# Altium schematic symbol library AmbiqAndromeda.SCHLIB: 34 symbols
Pins are listed as number, name and electrical type; pins without a type are passive.

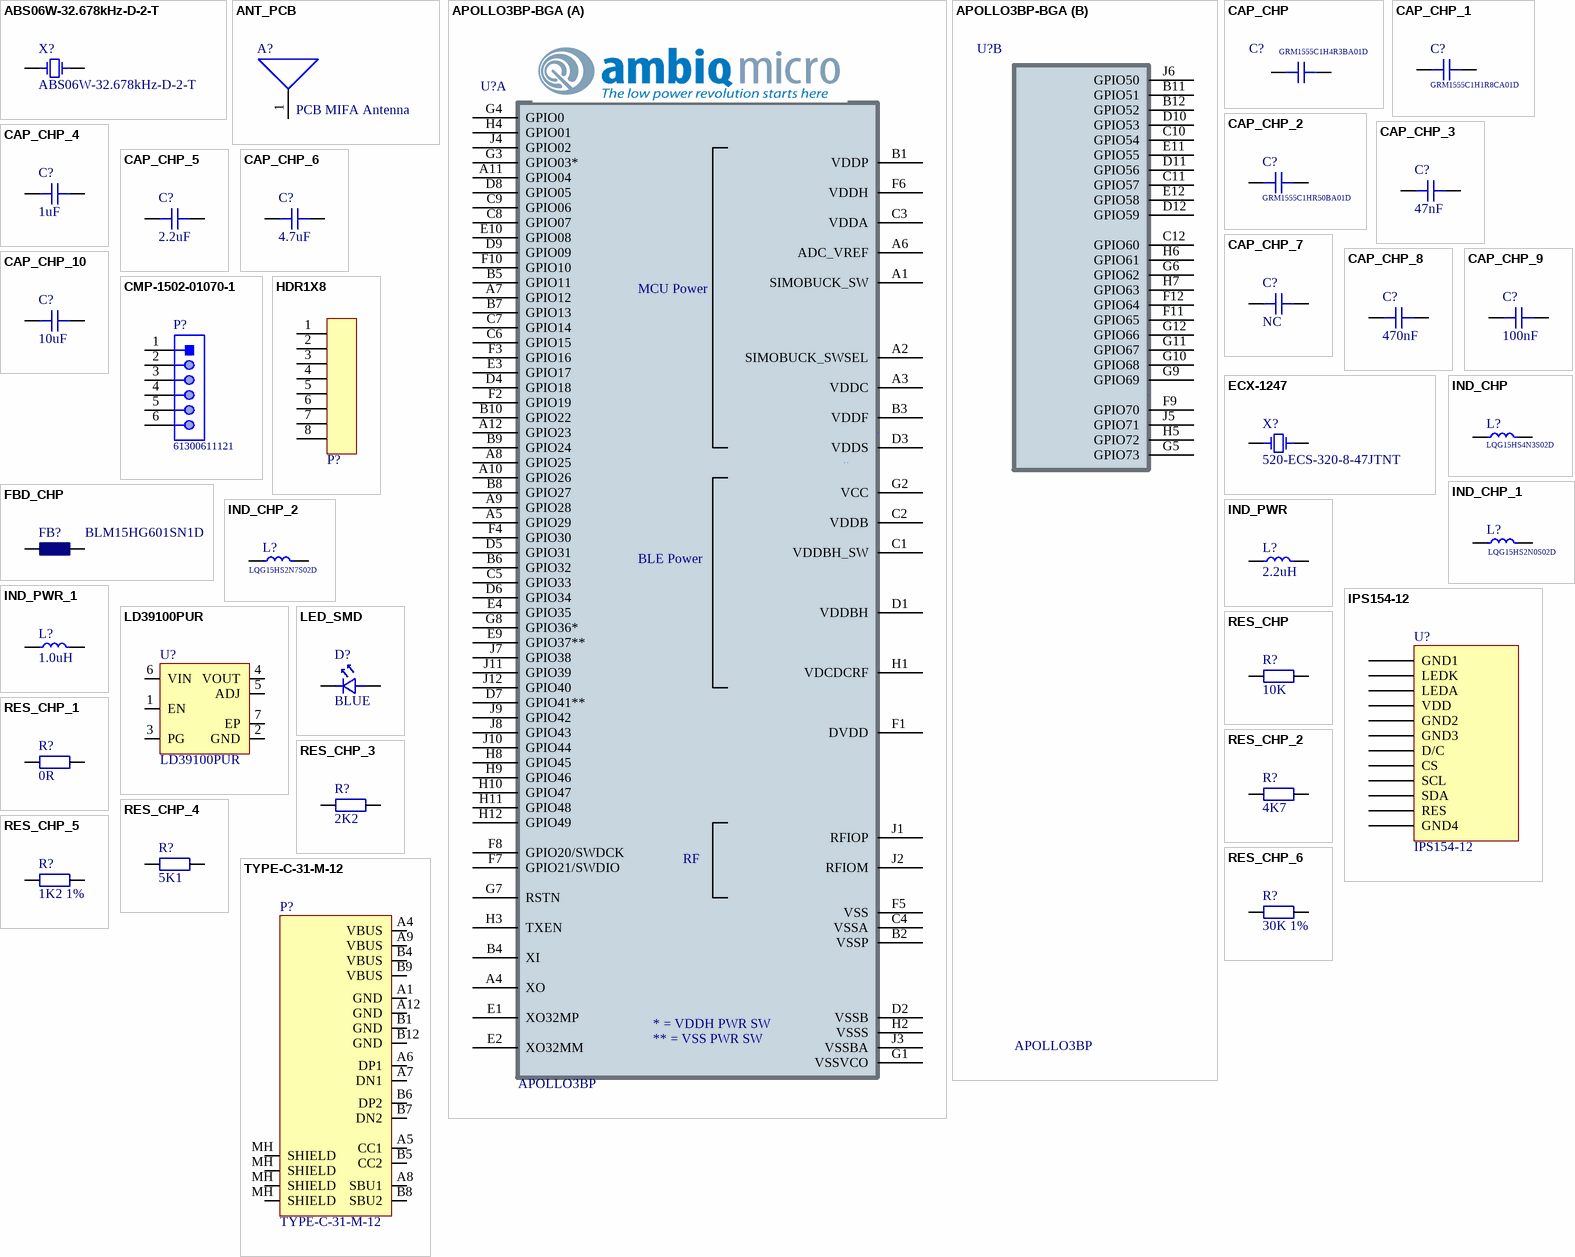
[diagram p0: symbols ABS06W-32.678kHz-D-2-T to TYPE-C-31-M-12]

## ABS06W-32.678kHz-D-2-T
designator X?
32.768KHZ IoT OPTIMIZED SMD CRYSTA
footprint ABS06W
pins: 1, 2

## ANT_PCB
designator A?, comment PCB MIFA Antenna  (net tie, no BOM)
2.4G Printed Antenna
footprint MIFA_ANTENNA
footprint IFA (Wonderful Antenna Sandbox Electronics Patent Pending)
footprint IFA_CC2530 (2.4GHz Inverted F Antenna)
footprint MIFA_CC2530
footprint MIFA_AMBIQ
pins: 1

## APOLLO3BP-BGA
designator U?, comment APOLLO3BP
APOLLO3 Blue Plus; Manufacturer: Ambiq Micro; Part Number: APOLLO3BP; Value: APOLLO3BP
footprint BGA104C40P12X9_530X430X80L (BGA, 104-Leads, Body 5.30x4.30mmx0.80mm, Pitch 0.40mm)
footprint BGA104C40P12X9_530X430X80M (BGA, 104-Leads, Body 5.30x4.30mmx0.80mm, Pitch 0.40mm)
part A pins: A1 SIMOBUCK_SW, A2 SIMOBUCK_SWSEL, A3 VDDC, A4 XO, A5 GPIO29, A6 ADC_VREF, A7 GPIO12, A8 GPIO25, A9 GPIO28, A10 GPIO26, A11 GPIO04, A12 GPIO23, B1 VDDP, B2 VSSP, B3 VDDF, B4 XI, B5 GPIO11, B6 GPIO32, B7 GPIO13, B8 GPIO27, B9 GPIO24, B10 GPIO22, C1 VDDBH_SW, C2 VDDB, C3 VDDA, C4 VSSA, C5 GPIO33, C6 GPIO15, C7 GPIO14, C8 GPIO07, C9 GPIO06, D1 VDDBH, D2 VSSB, D3 VDDS, D4 GPIO18, D5 GPIO31, D6 GPIO34, D7 GPIO41**, D8 GPIO05, D9 GPIO09, E1 XO32MP, E2 XO32MM, E3 GPIO17, E4 GPIO35, E9 GPIO37**, E10 GPIO08, F1 DVDD, F2 GPIO19, F3 GPIO16, F4 GPIO30, F5 VSS, F6 VDDH, F7 GPIO21/SWDIO, F8 GPIO20/SWDCK, F10 GPIO10, G1 VSSVCO, G2 VCC, G3 GPIO03*, G4 GPIO0, G7 RSTN, G8 GPIO36*, H1 VDCDCRF, H2 VSSS, H3 TXEN, H4 GPIO01, H8 GPIO45, H9 GPIO46, H10 GPIO47, H11 GPIO48, H12 GPIO49, J1 RFIOP, J2 RFIOM, J3 VSSBA, J4 GPIO02, J7 GPIO38, J8 GPIO43, J9 GPIO42, J10 GPIO44, J11 GPIO39, J12 GPIO40
part B pins: B11 GPIO51, B12 GPIO52, C10 GPIO54, C11 GPIO57, C12 GPIO60, D10 GPIO53, D11 GPIO56, D12 GPIO59, E11 GPIO55, E12 GPIO58, F9 GPIO70, F11 GPIO65, F12 GPIO64, G5 GPIO73, G6 GPIO62, G9 GPIO69, G10 GPIO68, G11 GPIO67, G12 GPIO66, H5 GPIO72, H6 GPIO61, H7 GPIO63, J5 GPIO71, J6 GPIO50
part A text: MCU Power; BLE Power; RF; * = VDDH PWR SW; ** = VSS PWR SW

## CAP_CHP
designator C?, comment GRM1555C1H4R3BA01D
Surface Mount Unpolarized Capacitor
footprint CAPC1608L (Chip Capacitor, Body 1.6x0.8mm, IPC High Density)
footprint CAPC1608M (Chip Capacitor, Body 1.6x0.8mm, IPC Low Density)
footprint CAPC1608N (Chip Capacitor, Body 1.6x0.8mm, IPC Medium Density)
footprint CAPC2012L (Chip Capacitor, Body 2.0x1.3mm, IPC High Density)
footprint CAPC2012M (Chip Capacitor, Body 2.0x1.3mm, IPC Low Density)
footprint CAPC2012N (Chip Capacitor, Body 2.0x1.3mm, IPC Medium Density)
footprint CAPC3216L (Chip Capacitor, Body 3.2x1.6mm, IPC High Density)
footprint CAPC3216M (Chip Capacitor, Body 3.2x1.6mm, IPC Low Density)
footprint CAPC3216N (Chip Capacitor, Body 3.2x1.6mm, IPC Medium Density)
footprint CAPC3225L (Chip Capacitor, Body 3.2x2.5mm, IPC High Density)
footprint CAPC3225M (Chip Capacitor, Body 3.2x2.5mm, IPC Low Density)
footprint CAPC3225N (Chip Capacitor, Body 3.2x2.5mm, IPC Medium Density)
footprint CAPC1005L (Chip Capacitor, Body 1.0x0.5mm, IPC High Density)
footprint CAPC1005M (Chip Capacitor, Body 1.0x0.5mm, IPC Low Density)
footprint CAPC1005N (Chip Capacitor, Body 1.0x0.5mm, IPC Medium Density)
footprint ECHU1608
footprint ECHU2012
footprint ECWU3216
footprint CAPC4532L (Chip Capacitor, Body 4.5x3.2mm, IPC High Density)
footprint CAPC4532M (Chip Capacitor, Body 4.5x3.2mm, IPC Low Density)
footprint CAPC4532N (Chip Capacitor, Body 4.5x3.2mm, IPC Medium Density)
pins: 1, 2

## CAP_CHP_1
designator C?, comment GRM1555C1H1R8CA01D
Surface Mount Unpolarized Capacitor
footprint CAPC1608L (Chip Capacitor, Body 1.6x0.8mm, IPC High Density)
footprint CAPC1608M (Chip Capacitor, Body 1.6x0.8mm, IPC Low Density)
footprint CAPC1608N (Chip Capacitor, Body 1.6x0.8mm, IPC Medium Density)
footprint CAPC2012L (Chip Capacitor, Body 2.0x1.3mm, IPC High Density)
footprint CAPC2012M (Chip Capacitor, Body 2.0x1.3mm, IPC Low Density)
footprint CAPC2012N (Chip Capacitor, Body 2.0x1.3mm, IPC Medium Density)
footprint CAPC3216L (Chip Capacitor, Body 3.2x1.6mm, IPC High Density)
footprint CAPC3216M (Chip Capacitor, Body 3.2x1.6mm, IPC Low Density)
footprint CAPC3216N (Chip Capacitor, Body 3.2x1.6mm, IPC Medium Density)
footprint CAPC3225L (Chip Capacitor, Body 3.2x2.5mm, IPC High Density)
footprint CAPC3225M (Chip Capacitor, Body 3.2x2.5mm, IPC Low Density)
footprint CAPC3225N (Chip Capacitor, Body 3.2x2.5mm, IPC Medium Density)
footprint CAPC1005L (Chip Capacitor, Body 1.0x0.5mm, IPC High Density)
footprint CAPC1005M (Chip Capacitor, Body 1.0x0.5mm, IPC Low Density)
footprint CAPC1005N (Chip Capacitor, Body 1.0x0.5mm, IPC Medium Density)
footprint ECHU1608
footprint ECHU2012
footprint ECWU3216
footprint CAPC4532L (Chip Capacitor, Body 4.5x3.2mm, IPC High Density)
footprint CAPC4532M (Chip Capacitor, Body 4.5x3.2mm, IPC Low Density)
footprint CAPC4532N (Chip Capacitor, Body 4.5x3.2mm, IPC Medium Density)
pins: 1, 2

## CAP_CHP_2
designator C?, comment GRM1555C1HR50BA01D
Surface Mount Unpolarized Capacitor
footprint CAPC1608L (Chip Capacitor, Body 1.6x0.8mm, IPC High Density)
footprint CAPC1608M (Chip Capacitor, Body 1.6x0.8mm, IPC Low Density)
footprint CAPC1608N (Chip Capacitor, Body 1.6x0.8mm, IPC Medium Density)
footprint CAPC2012L (Chip Capacitor, Body 2.0x1.3mm, IPC High Density)
footprint CAPC2012M (Chip Capacitor, Body 2.0x1.3mm, IPC Low Density)
footprint CAPC2012N (Chip Capacitor, Body 2.0x1.3mm, IPC Medium Density)
footprint CAPC3216L (Chip Capacitor, Body 3.2x1.6mm, IPC High Density)
footprint CAPC3216M (Chip Capacitor, Body 3.2x1.6mm, IPC Low Density)
footprint CAPC3216N (Chip Capacitor, Body 3.2x1.6mm, IPC Medium Density)
footprint CAPC3225L (Chip Capacitor, Body 3.2x2.5mm, IPC High Density)
footprint CAPC3225M (Chip Capacitor, Body 3.2x2.5mm, IPC Low Density)
footprint CAPC3225N (Chip Capacitor, Body 3.2x2.5mm, IPC Medium Density)
footprint CAPC1005L (Chip Capacitor, Body 1.0x0.5mm, IPC High Density)
footprint CAPC1005M (Chip Capacitor, Body 1.0x0.5mm, IPC Low Density)
footprint CAPC1005N (Chip Capacitor, Body 1.0x0.5mm, IPC Medium Density)
footprint ECHU1608
footprint ECHU2012
footprint ECWU3216
footprint CAPC4532L (Chip Capacitor, Body 4.5x3.2mm, IPC High Density)
footprint CAPC4532M (Chip Capacitor, Body 4.5x3.2mm, IPC Low Density)
footprint CAPC4532N (Chip Capacitor, Body 4.5x3.2mm, IPC Medium Density)
pins: 1, 2

## CAP_CHP_3
designator C?, comment 47nF
Surface Mount Unpolarized Capacitor
footprint CAPC1608L (Chip Capacitor, Body 1.6x0.8mm, IPC High Density)
footprint CAPC1608M (Chip Capacitor, Body 1.6x0.8mm, IPC Low Density)
footprint CAPC1608N (Chip Capacitor, Body 1.6x0.8mm, IPC Medium Density)
footprint CAPC2012L (Chip Capacitor, Body 2.0x1.3mm, IPC High Density)
footprint CAPC2012M (Chip Capacitor, Body 2.0x1.3mm, IPC Low Density)
footprint CAPC2012N (Chip Capacitor, Body 2.0x1.3mm, IPC Medium Density)
footprint CAPC3216L (Chip Capacitor, Body 3.2x1.6mm, IPC High Density)
footprint CAPC3216M (Chip Capacitor, Body 3.2x1.6mm, IPC Low Density)
footprint CAPC3216N (Chip Capacitor, Body 3.2x1.6mm, IPC Medium Density)
footprint CAPC3225L (Chip Capacitor, Body 3.2x2.5mm, IPC High Density)
footprint CAPC3225M (Chip Capacitor, Body 3.2x2.5mm, IPC Low Density)
footprint CAPC3225N (Chip Capacitor, Body 3.2x2.5mm, IPC Medium Density)
footprint CAPC1005L (Chip Capacitor, Body 1.0x0.5mm, IPC High Density)
footprint CAPC1005M (Chip Capacitor, Body 1.0x0.5mm, IPC Low Density)
footprint CAPC1005N (Chip Capacitor, Body 1.0x0.5mm, IPC Medium Density)
footprint ECHU1608
footprint ECHU2012
footprint ECWU3216
footprint CAPC4532L (Chip Capacitor, Body 4.5x3.2mm, IPC High Density)
footprint CAPC4532M (Chip Capacitor, Body 4.5x3.2mm, IPC Low Density)
footprint CAPC4532N (Chip Capacitor, Body 4.5x3.2mm, IPC Medium Density)
footprint CAPC0603L (Chip Capacitor, Body 1.0x0.5mm, IPC High Density)
footprint CAPC0603M (Chip Capacitor, Body 1.0x0.5mm, IPC Low  Density)
footprint CAPC0603N (Chip Capacitor, Body 1.0x0.5mm, IPC Medium Density)
pins: 1, 2

## CAP_CHP_4
designator C?, comment 1uF
Surface Mount Unpolarized Capacitor
footprint CAPC1608L (Chip Capacitor, Body 1.6x0.8mm, IPC High Density)
footprint CAPC1608M (Chip Capacitor, Body 1.6x0.8mm, IPC Low Density)
footprint CAPC1608N (Chip Capacitor, Body 1.6x0.8mm, IPC Medium Density)
footprint CAPC2012L (Chip Capacitor, Body 2.0x1.3mm, IPC High Density)
footprint CAPC2012M (Chip Capacitor, Body 2.0x1.3mm, IPC Low Density)
footprint CAPC2012N (Chip Capacitor, Body 2.0x1.3mm, IPC Medium Density)
footprint CAPC3216L (Chip Capacitor, Body 3.2x1.6mm, IPC High Density)
footprint CAPC3216M (Chip Capacitor, Body 3.2x1.6mm, IPC Low Density)
footprint CAPC3216N (Chip Capacitor, Body 3.2x1.6mm, IPC Medium Density)
footprint CAPC3225L (Chip Capacitor, Body 3.2x2.5mm, IPC High Density)
footprint CAPC3225M (Chip Capacitor, Body 3.2x2.5mm, IPC Low Density)
footprint CAPC3225N (Chip Capacitor, Body 3.2x2.5mm, IPC Medium Density)
footprint CAPC1005L (Chip Capacitor, Body 1.0x0.5mm, IPC High Density)
footprint CAPC1005M (Chip Capacitor, Body 1.0x0.5mm, IPC Low Density)
footprint CAPC1005N (Chip Capacitor, Body 1.0x0.5mm, IPC Medium Density)
footprint ECHU1608
footprint ECHU2012
footprint ECWU3216
footprint CAPC4532L (Chip Capacitor, Body 4.5x3.2mm, IPC High Density)
footprint CAPC4532M (Chip Capacitor, Body 4.5x3.2mm, IPC Low Density)
footprint CAPC4532N (Chip Capacitor, Body 4.5x3.2mm, IPC Medium Density)
footprint CAPC0603L (Chip Capacitor, Body 1.0x0.5mm, IPC High Density)
footprint CAPC0603M (Chip Capacitor, Body 1.0x0.5mm, IPC Low  Density)
footprint CAPC0603N (Chip Capacitor, Body 1.0x0.5mm, IPC Medium Density)
pins: 1, 2

## CAP_CHP_5
designator C?, comment 2.2uF
Surface Mount Unpolarized Capacitor
footprint CAPC1608L (Chip Capacitor, Body 1.6x0.8mm, IPC High Density)
footprint CAPC1608M (Chip Capacitor, Body 1.6x0.8mm, IPC Low Density)
footprint CAPC1608N (Chip Capacitor, Body 1.6x0.8mm, IPC Medium Density)
footprint CAPC2012L (Chip Capacitor, Body 2.0x1.3mm, IPC High Density)
footprint CAPC2012M (Chip Capacitor, Body 2.0x1.3mm, IPC Low Density)
footprint CAPC2012N (Chip Capacitor, Body 2.0x1.3mm, IPC Medium Density)
footprint CAPC3216L (Chip Capacitor, Body 3.2x1.6mm, IPC High Density)
footprint CAPC3216M (Chip Capacitor, Body 3.2x1.6mm, IPC Low Density)
footprint CAPC3216N (Chip Capacitor, Body 3.2x1.6mm, IPC Medium Density)
footprint CAPC3225L (Chip Capacitor, Body 3.2x2.5mm, IPC High Density)
footprint CAPC3225M (Chip Capacitor, Body 3.2x2.5mm, IPC Low Density)
footprint CAPC3225N (Chip Capacitor, Body 3.2x2.5mm, IPC Medium Density)
footprint CAPC1005L (Chip Capacitor, Body 1.0x0.5mm, IPC High Density)
footprint CAPC1005M (Chip Capacitor, Body 1.0x0.5mm, IPC Low Density)
footprint CAPC1005N (Chip Capacitor, Body 1.0x0.5mm, IPC Medium Density)
footprint ECHU1608
footprint ECHU2012
footprint ECWU3216
footprint CAPC4532L (Chip Capacitor, Body 4.5x3.2mm, IPC High Density)
footprint CAPC4532M (Chip Capacitor, Body 4.5x3.2mm, IPC Low Density)
footprint CAPC4532N (Chip Capacitor, Body 4.5x3.2mm, IPC Medium Density)
footprint CAPC0603L (Chip Capacitor, Body 1.0x0.5mm, IPC High Density)
footprint CAPC0603M (Chip Capacitor, Body 1.0x0.5mm, IPC Low  Density)
footprint CAPC0603N (Chip Capacitor, Body 1.0x0.5mm, IPC Medium Density)
pins: 1, 2

## CAP_CHP_6
designator C?, comment 4.7uF
Surface Mount Unpolarized Capacitor
footprint CAPC1608L (Chip Capacitor, Body 1.6x0.8mm, IPC High Density)
footprint CAPC1608M (Chip Capacitor, Body 1.6x0.8mm, IPC Low Density)
footprint CAPC1608N (Chip Capacitor, Body 1.6x0.8mm, IPC Medium Density)
footprint CAPC2012L (Chip Capacitor, Body 2.0x1.3mm, IPC High Density)
footprint CAPC2012M (Chip Capacitor, Body 2.0x1.3mm, IPC Low Density)
footprint CAPC2012N (Chip Capacitor, Body 2.0x1.3mm, IPC Medium Density)
footprint CAPC3216L (Chip Capacitor, Body 3.2x1.6mm, IPC High Density)
footprint CAPC3216M (Chip Capacitor, Body 3.2x1.6mm, IPC Low Density)
footprint CAPC3216N (Chip Capacitor, Body 3.2x1.6mm, IPC Medium Density)
footprint CAPC3225L (Chip Capacitor, Body 3.2x2.5mm, IPC High Density)
footprint CAPC3225M (Chip Capacitor, Body 3.2x2.5mm, IPC Low Density)
footprint CAPC3225N (Chip Capacitor, Body 3.2x2.5mm, IPC Medium Density)
footprint CAPC1005L (Chip Capacitor, Body 1.0x0.5mm, IPC High Density)
footprint CAPC1005M (Chip Capacitor, Body 1.0x0.5mm, IPC Low Density)
footprint CAPC1005N (Chip Capacitor, Body 1.0x0.5mm, IPC Medium Density)
footprint ECHU1608
footprint ECHU2012
footprint ECWU3216
footprint CAPC4532L (Chip Capacitor, Body 4.5x3.2mm, IPC High Density)
footprint CAPC4532M (Chip Capacitor, Body 4.5x3.2mm, IPC Low Density)
footprint CAPC4532N (Chip Capacitor, Body 4.5x3.2mm, IPC Medium Density)
footprint CAPC0603L (Chip Capacitor, Body 1.0x0.5mm, IPC High Density)
footprint CAPC0603M (Chip Capacitor, Body 1.0x0.5mm, IPC Low  Density)
footprint CAPC0603N (Chip Capacitor, Body 1.0x0.5mm, IPC Medium Density)
pins: 1, 2

## CAP_CHP_7
designator C?, comment NC
Surface Mount Unpolarized Capacitor
footprint CAPC1608L (Chip Capacitor, Body 1.6x0.8mm, IPC High Density)
footprint CAPC1608M (Chip Capacitor, Body 1.6x0.8mm, IPC Low Density)
footprint CAPC1608N (Chip Capacitor, Body 1.6x0.8mm, IPC Medium Density)
footprint CAPC2012L (Chip Capacitor, Body 2.0x1.3mm, IPC High Density)
footprint CAPC2012M (Chip Capacitor, Body 2.0x1.3mm, IPC Low Density)
footprint CAPC2012N (Chip Capacitor, Body 2.0x1.3mm, IPC Medium Density)
footprint CAPC3216L (Chip Capacitor, Body 3.2x1.6mm, IPC High Density)
footprint CAPC3216M (Chip Capacitor, Body 3.2x1.6mm, IPC Low Density)
footprint CAPC3216N (Chip Capacitor, Body 3.2x1.6mm, IPC Medium Density)
footprint CAPC3225L (Chip Capacitor, Body 3.2x2.5mm, IPC High Density)
footprint CAPC3225M (Chip Capacitor, Body 3.2x2.5mm, IPC Low Density)
footprint CAPC3225N (Chip Capacitor, Body 3.2x2.5mm, IPC Medium Density)
footprint CAPC1005L (Chip Capacitor, Body 1.0x0.5mm, IPC High Density)
footprint CAPC1005M (Chip Capacitor, Body 1.0x0.5mm, IPC Low Density)
footprint CAPC1005N (Chip Capacitor, Body 1.0x0.5mm, IPC Medium Density)
footprint ECHU1608
footprint ECHU2012
footprint ECWU3216
footprint CAPC4532L (Chip Capacitor, Body 4.5x3.2mm, IPC High Density)
footprint CAPC4532M (Chip Capacitor, Body 4.5x3.2mm, IPC Low Density)
footprint CAPC4532N (Chip Capacitor, Body 4.5x3.2mm, IPC Medium Density)
footprint CAPC0603L (Chip Capacitor, Body 1.0x0.5mm, IPC High Density)
footprint CAPC0603M (Chip Capacitor, Body 1.0x0.5mm, IPC Low  Density)
footprint CAPC0603N (Chip Capacitor, Body 1.0x0.5mm, IPC Medium Density)
pins: 1, 2

## CAP_CHP_8
designator C?, comment 470nF
Surface Mount Unpolarized Capacitor
footprint CAPC1608L (Chip Capacitor, Body 1.6x0.8mm, IPC High Density)
footprint CAPC1608M (Chip Capacitor, Body 1.6x0.8mm, IPC Low Density)
footprint CAPC1608N (Chip Capacitor, Body 1.6x0.8mm, IPC Medium Density)
footprint CAPC2012L (Chip Capacitor, Body 2.0x1.3mm, IPC High Density)
footprint CAPC2012M (Chip Capacitor, Body 2.0x1.3mm, IPC Low Density)
footprint CAPC2012N (Chip Capacitor, Body 2.0x1.3mm, IPC Medium Density)
footprint CAPC3216L (Chip Capacitor, Body 3.2x1.6mm, IPC High Density)
footprint CAPC3216M (Chip Capacitor, Body 3.2x1.6mm, IPC Low Density)
footprint CAPC3216N (Chip Capacitor, Body 3.2x1.6mm, IPC Medium Density)
footprint CAPC3225L (Chip Capacitor, Body 3.2x2.5mm, IPC High Density)
footprint CAPC3225M (Chip Capacitor, Body 3.2x2.5mm, IPC Low Density)
footprint CAPC3225N (Chip Capacitor, Body 3.2x2.5mm, IPC Medium Density)
footprint CAPC1005L (Chip Capacitor, Body 1.0x0.5mm, IPC High Density)
footprint CAPC1005M (Chip Capacitor, Body 1.0x0.5mm, IPC Low Density)
footprint CAPC1005N (Chip Capacitor, Body 1.0x0.5mm, IPC Medium Density)
footprint ECHU1608
footprint ECHU2012
footprint ECWU3216
footprint CAPC4532L (Chip Capacitor, Body 4.5x3.2mm, IPC High Density)
footprint CAPC4532M (Chip Capacitor, Body 4.5x3.2mm, IPC Low Density)
footprint CAPC4532N (Chip Capacitor, Body 4.5x3.2mm, IPC Medium Density)
footprint CAPC0603L (Chip Capacitor, Body 1.0x0.5mm, IPC High Density)
footprint CAPC0603M (Chip Capacitor, Body 1.0x0.5mm, IPC Low  Density)
footprint CAPC0603N (Chip Capacitor, Body 1.0x0.5mm, IPC Medium Density)
pins: 1, 2

## CAP_CHP_9
designator C?, comment 100nF
Surface Mount Unpolarized Capacitor
footprint CAPC1608L (Chip Capacitor, Body 1.6x0.8mm, IPC High Density)
footprint CAPC1608M (Chip Capacitor, Body 1.6x0.8mm, IPC Low Density)
footprint CAPC1608N (Chip Capacitor, Body 1.6x0.8mm, IPC Medium Density)
footprint CAPC2012L (Chip Capacitor, Body 2.0x1.3mm, IPC High Density)
footprint CAPC2012M (Chip Capacitor, Body 2.0x1.3mm, IPC Low Density)
footprint CAPC2012N (Chip Capacitor, Body 2.0x1.3mm, IPC Medium Density)
footprint CAPC3216L (Chip Capacitor, Body 3.2x1.6mm, IPC High Density)
footprint CAPC3216M (Chip Capacitor, Body 3.2x1.6mm, IPC Low Density)
footprint CAPC3216N (Chip Capacitor, Body 3.2x1.6mm, IPC Medium Density)
footprint CAPC3225L (Chip Capacitor, Body 3.2x2.5mm, IPC High Density)
footprint CAPC3225M (Chip Capacitor, Body 3.2x2.5mm, IPC Low Density)
footprint CAPC3225N (Chip Capacitor, Body 3.2x2.5mm, IPC Medium Density)
footprint CAPC1005L (Chip Capacitor, Body 1.0x0.5mm, IPC High Density)
footprint CAPC1005M (Chip Capacitor, Body 1.0x0.5mm, IPC Low Density)
footprint CAPC1005N (Chip Capacitor, Body 1.0x0.5mm, IPC Medium Density)
footprint ECHU1608
footprint ECHU2012
footprint ECWU3216
footprint CAPC4532L (Chip Capacitor, Body 4.5x3.2mm, IPC High Density)
footprint CAPC4532M (Chip Capacitor, Body 4.5x3.2mm, IPC Low Density)
footprint CAPC4532N (Chip Capacitor, Body 4.5x3.2mm, IPC Medium Density)
pins: 1, 2

## CAP_CHP_10
designator C?, comment 10uF
Surface Mount Unpolarized Capacitor
footprint CAPC1608L (Chip Capacitor, Body 1.6x0.8mm, IPC High Density)
footprint CAPC1608M (Chip Capacitor, Body 1.6x0.8mm, IPC Low Density)
footprint CAPC1608N (Chip Capacitor, Body 1.6x0.8mm, IPC Medium Density)
footprint CAPC2012L (Chip Capacitor, Body 2.0x1.3mm, IPC High Density)
footprint CAPC2012M (Chip Capacitor, Body 2.0x1.3mm, IPC Low Density)
footprint CAPC2012N (Chip Capacitor, Body 2.0x1.3mm, IPC Medium Density)
footprint CAPC3216L (Chip Capacitor, Body 3.2x1.6mm, IPC High Density)
footprint CAPC3216M (Chip Capacitor, Body 3.2x1.6mm, IPC Low Density)
footprint CAPC3216N (Chip Capacitor, Body 3.2x1.6mm, IPC Medium Density)
footprint CAPC3225L (Chip Capacitor, Body 3.2x2.5mm, IPC High Density)
footprint CAPC3225M (Chip Capacitor, Body 3.2x2.5mm, IPC Low Density)
footprint CAPC3225N (Chip Capacitor, Body 3.2x2.5mm, IPC Medium Density)
footprint CAPC1005L (Chip Capacitor, Body 1.0x0.5mm, IPC High Density)
footprint CAPC1005M (Chip Capacitor, Body 1.0x0.5mm, IPC Low Density)
footprint CAPC1005N (Chip Capacitor, Body 1.0x0.5mm, IPC Medium Density)
footprint ECHU1608
footprint ECHU2012
footprint ECWU3216
footprint CAPC4532L (Chip Capacitor, Body 4.5x3.2mm, IPC High Density)
footprint CAPC4532M (Chip Capacitor, Body 4.5x3.2mm, IPC Low Density)
footprint CAPC4532N (Chip Capacitor, Body 4.5x3.2mm, IPC Medium Density)
pins: 1, 2

## CMP-1502-01070-1
designator P?, comment 61300611121
THT Vertical Pin Header WR-PHD, Pitch 2.54 mm, Single Row, 6 pins; Manufacturer: Wurth Elektronik; Manufacturer: Wurth Electronics; Gender: Male; Pin Number: 6; Pitch: 2.54mm; Working Voltage: 250VAC; Rated Current: 3A; Withstanding Voltage: 500VAC; Contact Resistance: 20mOhm; Operating Temperature: -40to105degC; Packaging: Bag; Datasheet URL: https://katalog.we-online.de/em/datasheet/6130xx11121.pdf; Package Reference: 61300611121; Mounting Technology: THT; Publisher: WurthElektronik; Part Number: 61300611121; Manufacturer URL: http://www.we-online.de; Row Number: Single; Orientation: Vertical; Manufacturer Part Number: 61300611121
footprint 61300611121 (Pin Header, pitch 2.54 mm, THT, Vertical, single row, 6p)
pins: 1, 2, 3, 4, 5, 6

## ECX-1247
designator X?, comment 520-ECS-320-8-47JTNT
XTAL 32MHZ 8pF 20ppm  1.6mm x 1.2mm x 0.35mm SMT
footprint ECX-1247
pins: 1, 2 GND hidden to GND, 3, 4 GND hidden to GND

## FBD_CHP
designator FB?, comment BLM15HG601SN1D
Surface Mount Ferrite Bead
footprint FBDC1005L (Ferrite Bead, Body 1.1x0.5mm, IPC High Density)
footprint FBDC1005M (Ferrite Bead, Body 1.1x0.5mm, IPC Low Density)
footprint FBDC1005N (Ferrite Bead, Body 1.1x0.5mm, IPC Medium Density)
footprint FBDC1608L (Ferrite Bead, Body 1.6x0.8mm, IPC High Density)
footprint FBDC1608M (Ferrite Bead, Body 1.6x0.8mm, IPC Low Density)
footprint FBDC1608N (Ferrite Bead, Body 1.6x0.8mm, IPC Medium Density)
footprint FBDC2012L (Ferrite Bead, Body 2.0x1.3mm, IPC High Density)
footprint FBDC2012M (Ferrite Bead, Body 2.0x1.3mm, IPC Low Density)
footprint FBDC2012N (Ferrite Bead, Body 2.0x1.3mm, IPC Medium Density)
footprint FBDC3216L (Ferrite Bead, Body 3.2x1.6mm, IPC High Density)
footprint FBDC3216M (Ferrite Bead, Body 3.2x1.6mm, IPC Low Density)
footprint FBDC3216N (Ferrite Bead, Body 3.2x1.6mm, IPC Medium Density)
pins: 1, 2

## HDR1X8
designator P?, comment Header 1X8  (value not drawn)  (no BOM)
footprint HEADER1X8
pins: 1, 2, 3, 4, 5, 6, 7, 8

## IND_CHP
designator L?, comment LQG15HS4N3S02D
Chip Inductor
footprint INDC1005L (Chip Inductor, Body 1.0x0.5mm, IPC High Density)
footprint INDC1005M (Chip Inductor, Body 1.0x0.5mm, IPC Low Density)
footprint INDC1005N (Chip Inductor, Body 1.0x0.5mm, IPC Medium Density)
footprint INDC3216N (Chip Inductor, Body 3.2x1.6mm, IPC Medium Density)
footprint INDC3216L (Chip Inductor, Body 3.2x1.6mm, IPC High Density)
footprint INDC3216M (Chip Inductor, Body 3.2x1.6mm, IPC Low Density)
footprint INDC1608L (Chip Inductor, Body 1.6x0.8mm, IPC High Density)
footprint INDC1608M (Chip Inductor, Body 1.6x0.8mm, IPC Low Density)
footprint INDC1608N (Chip Inductor, Body 1.6x0.8mm, IPC Medium Density)
footprint INDC3225N (Chip Inductor, Body 3.2x2.5mm, IPC Medium Density)
footprint INDC3225M (Chip Inductor, Body 3.2x2.5mm, IPC Low Density)
footprint INDC3225L (Chip Inductor, Body 3.2x2.5mm, IPC High Density)
pins: 1, 2

## IND_CHP_1
designator L?, comment LQG15HS2N0S02D
Chip Inductor
footprint INDC1005L (Chip Inductor, Body 1.0x0.5mm, IPC High Density)
footprint INDC1005M (Chip Inductor, Body 1.0x0.5mm, IPC Low Density)
footprint INDC1005N (Chip Inductor, Body 1.0x0.5mm, IPC Medium Density)
footprint INDC3216N (Chip Inductor, Body 3.2x1.6mm, IPC Medium Density)
footprint INDC3216L (Chip Inductor, Body 3.2x1.6mm, IPC High Density)
footprint INDC3216M (Chip Inductor, Body 3.2x1.6mm, IPC Low Density)
footprint INDC1608L (Chip Inductor, Body 1.6x0.8mm, IPC High Density)
footprint INDC1608M (Chip Inductor, Body 1.6x0.8mm, IPC Low Density)
footprint INDC1608N (Chip Inductor, Body 1.6x0.8mm, IPC Medium Density)
footprint INDC3225N (Chip Inductor, Body 3.2x2.5mm, IPC Medium Density)
footprint INDC3225M (Chip Inductor, Body 3.2x2.5mm, IPC Low Density)
footprint INDC3225L (Chip Inductor, Body 3.2x2.5mm, IPC High Density)
pins: 1, 2

## IND_CHP_2
designator L?, comment LQG15HS2N7S02D
Chip Inductor
footprint INDC1005L (Chip Inductor, Body 1.0x0.5mm, IPC High Density)
footprint INDC1005M (Chip Inductor, Body 1.0x0.5mm, IPC Low Density)
footprint INDC1005N (Chip Inductor, Body 1.0x0.5mm, IPC Medium Density)
footprint INDC3216N (Chip Inductor, Body 3.2x1.6mm, IPC Medium Density)
footprint INDC3216L (Chip Inductor, Body 3.2x1.6mm, IPC High Density)
footprint INDC3216M (Chip Inductor, Body 3.2x1.6mm, IPC Low Density)
footprint INDC1608L (Chip Inductor, Body 1.6x0.8mm, IPC High Density)
footprint INDC1608M (Chip Inductor, Body 1.6x0.8mm, IPC Low Density)
footprint INDC1608N (Chip Inductor, Body 1.6x0.8mm, IPC Medium Density)
footprint INDC3225N (Chip Inductor, Body 3.2x2.5mm, IPC Medium Density)
footprint INDC3225M (Chip Inductor, Body 3.2x2.5mm, IPC Low Density)
footprint INDC3225L (Chip Inductor, Body 3.2x2.5mm, IPC High Density)
pins: 1, 2

## IND_PWR
designator L?, comment 2.2uH
DFE201610E-2R2M=P2
footprint Inductor
footprint PWRIND_SWPA3015S (Sunloardic SMT Inductor SWPA3015S Series)
footprint CDRH74 (SMD Power Inductor 7.5x7.5x4.5mm)
footprint PWRIND_SWRH2D14R
footprint PWRIND_SDRH104R
footprint PWRIND_SWRH4D28S
footprint PWRIND_SWPA252012S
footprint PWRIND_SWRH5D28S
footprint PWRIND_WE-LHMI
footprint LPS3015
footprint PWRIND_0630
footprint PWRIND_0520
footprint PWRIND_CDRH125
footprint DEF201610E
footprint BRC2012
footprint DFE18SAN
pins: 1, 2

## IND_PWR_1
designator L?, comment 1.0uH
DFE18SAN1R0MG0L
footprint Inductor
footprint PWRIND_SWPA3015S (Sunloardic SMT Inductor SWPA3015S Series)
footprint CDRH74 (SMD Power Inductor 7.5x7.5x4.5mm)
footprint PWRIND_SWRH2D14R
footprint PWRIND_SDRH104R
footprint PWRIND_SWRH4D28S
footprint PWRIND_SWPA252012S
footprint PWRIND_SWRH5D28S
footprint PWRIND_WE-LHMI
footprint LPS3015
footprint PWRIND_0630
footprint PWRIND_0520
footprint PWRIND_CDRH125
footprint DEF201610E
footprint BRC2012
footprint DFE18SAN
pins: 1, 2

## IPS154-12
designator U?
footprint ZJY154T-PG04 FPC 0.7mm
pins: 1 GND1, 2 LEDK, 3 LEDA, 4 VDD, 5 GND2, 6 GND3, 7 D/C, 8 CS, 9 SCL, 10 SDA, 11 RES, 12 GND4

## LD39100PUR
designator U?
Voltage Regulator, 1A, Low Quiescent Current  ,DFN6 Tape&Reel
footprint DFN6 (3x3)
pins: 1 EN, 2 GND, 3 PG, 4 VOUT, 5 ADJ, 6 VIN, 7 EP

## LED_SMD
designator D?, comment BLUE
Surface Mount LED
footprint LEDC1608L (Chip LED, Body 1.6x0.8mm, IPC High Density)
footprint LEDC1608M (Chip LED, Body 1.6x0.8mm, IPC Low Density)
footprint LEDC1608N (Chip LED, Body 1.6x0.8mm, IPC Medium Density)
footprint LEDC2012L (Chip LED, Body 2.0x1.3mm, IPC High Density)
footprint LEDC2012M (LED Resistor, Body 2.0x1.3mm, IPC Low Density)
footprint LEDC2012N (Chip LED, Body 2.0x1.3mm, IPC Medium Density)
footprint LED3528
footprint LEDC1005L (Chip LED, Body 1.1x0.5mm, IPC High Density)
footprint LEDC1005M (Chip LED, Body 1.1x0.5mm, IPC Low Density)
footprint LEDC1005N (Chip LED,  Body 1.1x0.5mm, IPC Medium Density)
footprint LEDC3215SN
pins: 1, 2

## RES_CHP
designator R?, comment 10K
Surface Mount Resistor
footprint RESC2012L (Chip Resistor, Body 2.0x1.3mm, IPC High Density)
footprint RESC2012M (Chip Resistor, Body 2.0x1.3mm, IPC Low Density)
footprint RESC2012N (Chip Resistor, Body 2.0x1.3mm, IPC Medium Density)
footprint RESC1608L (Chip Resistor, Body 1.6x0.8mm, IPC High Density)
footprint RESC1608M (Chip Resistor, Body 1.6x0.8mm, IPC Low Density)
footprint RESC1608N (Chip Resistor, Body 1.6x0.8mm, IPC Medium Density)
footprint RESC3216L (Chip Resistor, Body 3.2x1.6mm, IPC High Density)
footprint RESC3216M (Chip Resistor, Body 3.2x1.6mm, IPC Low Density)
footprint RESC3216N (Chip Resistor, Body 3.2x1.6mm, IPC Medium Density)
footprint RESC1005L (Chip Resistor, Body 1.1x0.5mm, IPC High Density)
footprint RESC1005M (Chip Resistor, Body 1.1x0.5mm, IPC Low Density)
footprint RESC1005N (Chip Resistor, Body 1.1x0.5mm, IPC Medium Density)
footprint RESC4532L (Chip Resistor, Body 4.5x3.2mm, IPC High Density)
footprint RESC4532M (Chip Resistor, Body 4.5x3.2mm, IPC Low Density)
footprint RESC4532N (Chip Resistor, Body 4.5x3.2mm, IPC Medium Density)
footprint RESC3225L (Chip Resistor, Body 3.2x2.5mm, IPC High Density)
footprint RESC3225M (Chip Resistor, Body 3.2x2.5mm, IPC Low Density)
footprint RESC3225N (Chip Resistor, Body 3.2x2.5mm, IPC Medium Density)
footprint RESC6332N (Chip Resistor, Body 6.3x3.2mm, IPC Medium Density)
footprint RESC6332M (Chip Resistor, Body 6.3x3.2mm, IPC Low Density)
footprint RESC6332L (Chip Resistor, Body 6.3x3.2mm, IPC High Density)
pins: 1, 2

## RES_CHP_1
designator R?, comment 0R
Surface Mount Resistor
footprint RESC2012L (Chip Resistor, Body 2.0x1.3mm, IPC High Density)
footprint RESC2012M (Chip Resistor, Body 2.0x1.3mm, IPC Low Density)
footprint RESC2012N (Chip Resistor, Body 2.0x1.3mm, IPC Medium Density)
footprint RESC1608L (Chip Resistor, Body 1.6x0.8mm, IPC High Density)
footprint RESC1608M (Chip Resistor, Body 1.6x0.8mm, IPC Low Density)
footprint RESC1608N (Chip Resistor, Body 1.6x0.8mm, IPC Medium Density)
footprint RESC3216L (Chip Resistor, Body 3.2x1.6mm, IPC High Density)
footprint RESC3216M (Chip Resistor, Body 3.2x1.6mm, IPC Low Density)
footprint RESC3216N (Chip Resistor, Body 3.2x1.6mm, IPC Medium Density)
footprint RESC1005L (Chip Resistor, Body 1.1x0.5mm, IPC High Density)
footprint RESC1005M (Chip Resistor, Body 1.1x0.5mm, IPC Low Density)
footprint RESC1005N (Chip Resistor, Body 1.1x0.5mm, IPC Medium Density)
footprint RESC4532L (Chip Resistor, Body 4.5x3.2mm, IPC High Density)
footprint RESC4532M (Chip Resistor, Body 4.5x3.2mm, IPC Low Density)
footprint RESC4532N (Chip Resistor, Body 4.5x3.2mm, IPC Medium Density)
footprint RESC3225L (Chip Resistor, Body 3.2x2.5mm, IPC High Density)
footprint RESC3225M (Chip Resistor, Body 3.2x2.5mm, IPC Low Density)
footprint RESC3225N (Chip Resistor, Body 3.2x2.5mm, IPC Medium Density)
footprint RESC6332N (Chip Resistor, Body 6.3x3.2mm, IPC Medium Density)
footprint RESC6332M (Chip Resistor, Body 6.3x3.2mm, IPC Low Density)
footprint RESC6332L (Chip Resistor, Body 6.3x3.2mm, IPC High Density)
footprint RESC0603L (Chip Resistor, Body 0.6x0.3mm, IPC High Density)
footprint RESC0603M (Chip Resistor, Body 0.6x0.3mm, IPC Low Density)
footprint RESC0603N (Chip Resistor, Body 0.6x0.3mm, IPC Medium Density)
pins: 1, 2

## RES_CHP_2
designator R?, comment 4K7
Surface Mount Resistor
footprint RESC2012L (Chip Resistor, Body 2.0x1.3mm, IPC High Density)
footprint RESC2012M (Chip Resistor, Body 2.0x1.3mm, IPC Low Density)
footprint RESC2012N (Chip Resistor, Body 2.0x1.3mm, IPC Medium Density)
footprint RESC1608L (Chip Resistor, Body 1.6x0.8mm, IPC High Density)
footprint RESC1608M (Chip Resistor, Body 1.6x0.8mm, IPC Low Density)
footprint RESC1608N (Chip Resistor, Body 1.6x0.8mm, IPC Medium Density)
footprint RESC3216L (Chip Resistor, Body 3.2x1.6mm, IPC High Density)
footprint RESC3216M (Chip Resistor, Body 3.2x1.6mm, IPC Low Density)
footprint RESC3216N (Chip Resistor, Body 3.2x1.6mm, IPC Medium Density)
footprint RESC1005L (Chip Resistor, Body 1.1x0.5mm, IPC High Density)
footprint RESC1005M (Chip Resistor, Body 1.1x0.5mm, IPC Low Density)
footprint RESC1005N (Chip Resistor, Body 1.1x0.5mm, IPC Medium Density)
footprint RESC4532L (Chip Resistor, Body 4.5x3.2mm, IPC High Density)
footprint RESC4532M (Chip Resistor, Body 4.5x3.2mm, IPC Low Density)
footprint RESC4532N (Chip Resistor, Body 4.5x3.2mm, IPC Medium Density)
footprint RESC3225L (Chip Resistor, Body 3.2x2.5mm, IPC High Density)
footprint RESC3225M (Chip Resistor, Body 3.2x2.5mm, IPC Low Density)
footprint RESC3225N (Chip Resistor, Body 3.2x2.5mm, IPC Medium Density)
footprint RESC6332N (Chip Resistor, Body 6.3x3.2mm, IPC Medium Density)
footprint RESC6332M (Chip Resistor, Body 6.3x3.2mm, IPC Low Density)
footprint RESC6332L (Chip Resistor, Body 6.3x3.2mm, IPC High Density)
pins: 1, 2

## RES_CHP_3
designator R?, comment 2K2
Surface Mount Resistor
footprint RESC2012L (Chip Resistor, Body 2.0x1.3mm, IPC High Density)
footprint RESC2012M (Chip Resistor, Body 2.0x1.3mm, IPC Low Density)
footprint RESC2012N (Chip Resistor, Body 2.0x1.3mm, IPC Medium Density)
footprint RESC1608L (Chip Resistor, Body 1.6x0.8mm, IPC High Density)
footprint RESC1608M (Chip Resistor, Body 1.6x0.8mm, IPC Low Density)
footprint RESC1608N (Chip Resistor, Body 1.6x0.8mm, IPC Medium Density)
footprint RESC3216L (Chip Resistor, Body 3.2x1.6mm, IPC High Density)
footprint RESC3216M (Chip Resistor, Body 3.2x1.6mm, IPC Low Density)
footprint RESC3216N (Chip Resistor, Body 3.2x1.6mm, IPC Medium Density)
footprint RESC1005L (Chip Resistor, Body 1.1x0.5mm, IPC High Density)
footprint RESC1005M (Chip Resistor, Body 1.1x0.5mm, IPC Low Density)
footprint RESC1005N (Chip Resistor, Body 1.1x0.5mm, IPC Medium Density)
footprint RESC4532L (Chip Resistor, Body 4.5x3.2mm, IPC High Density)
footprint RESC4532M (Chip Resistor, Body 4.5x3.2mm, IPC Low Density)
footprint RESC4532N (Chip Resistor, Body 4.5x3.2mm, IPC Medium Density)
footprint RESC3225L (Chip Resistor, Body 3.2x2.5mm, IPC High Density)
footprint RESC3225M (Chip Resistor, Body 3.2x2.5mm, IPC Low Density)
footprint RESC3225N (Chip Resistor, Body 3.2x2.5mm, IPC Medium Density)
footprint RESC6332N (Chip Resistor, Body 6.3x3.2mm, IPC Medium Density)
footprint RESC6332M (Chip Resistor, Body 6.3x3.2mm, IPC Low Density)
footprint RESC6332L (Chip Resistor, Body 6.3x3.2mm, IPC High Density)
pins: 1, 2

## RES_CHP_4
designator R?, comment 5K1
Surface Mount Resistor
footprint RESC2012L (Chip Resistor, Body 2.0x1.3mm, IPC High Density)
footprint RESC2012M (Chip Resistor, Body 2.0x1.3mm, IPC Low Density)
footprint RESC2012N (Chip Resistor, Body 2.0x1.3mm, IPC Medium Density)
footprint RESC1608L (Chip Resistor, Body 1.6x0.8mm, IPC High Density)
footprint RESC1608M (Chip Resistor, Body 1.6x0.8mm, IPC Low Density)
footprint RESC1608N (Chip Resistor, Body 1.6x0.8mm, IPC Medium Density)
footprint RESC3216L (Chip Resistor, Body 3.2x1.6mm, IPC High Density)
footprint RESC3216M (Chip Resistor, Body 3.2x1.6mm, IPC Low Density)
footprint RESC3216N (Chip Resistor, Body 3.2x1.6mm, IPC Medium Density)
footprint RESC1005L (Chip Resistor, Body 1.1x0.5mm, IPC High Density)
footprint RESC1005M (Chip Resistor, Body 1.1x0.5mm, IPC Low Density)
footprint RESC1005N (Chip Resistor, Body 1.1x0.5mm, IPC Medium Density)
footprint RESC4532L (Chip Resistor, Body 4.5x3.2mm, IPC High Density)
footprint RESC4532M (Chip Resistor, Body 4.5x3.2mm, IPC Low Density)
footprint RESC4532N (Chip Resistor, Body 4.5x3.2mm, IPC Medium Density)
footprint RESC3225L (Chip Resistor, Body 3.2x2.5mm, IPC High Density)
footprint RESC3225M (Chip Resistor, Body 3.2x2.5mm, IPC Low Density)
footprint RESC3225N (Chip Resistor, Body 3.2x2.5mm, IPC Medium Density)
footprint RESC6332N (Chip Resistor, Body 6.3x3.2mm, IPC Medium Density)
footprint RESC6332M (Chip Resistor, Body 6.3x3.2mm, IPC Low Density)
footprint RESC6332L (Chip Resistor, Body 6.3x3.2mm, IPC High Density)
pins: 1, 2

## RES_CHP_5
designator R?, comment 1K2 1%
Surface Mount Resistor
footprint RESC2012L (Chip Resistor, Body 2.0x1.3mm, IPC High Density)
footprint RESC2012M (Chip Resistor, Body 2.0x1.3mm, IPC Low Density)
footprint RESC2012N (Chip Resistor, Body 2.0x1.3mm, IPC Medium Density)
footprint RESC1608L (Chip Resistor, Body 1.6x0.8mm, IPC High Density)
footprint RESC1608M (Chip Resistor, Body 1.6x0.8mm, IPC Low Density)
footprint RESC1608N (Chip Resistor, Body 1.6x0.8mm, IPC Medium Density)
footprint RESC3216L (Chip Resistor, Body 3.2x1.6mm, IPC High Density)
footprint RESC3216M (Chip Resistor, Body 3.2x1.6mm, IPC Low Density)
footprint RESC3216N (Chip Resistor, Body 3.2x1.6mm, IPC Medium Density)
footprint RESC1005L (Chip Resistor, Body 1.1x0.5mm, IPC High Density)
footprint RESC1005M (Chip Resistor, Body 1.1x0.5mm, IPC Low Density)
footprint RESC1005N (Chip Resistor, Body 1.1x0.5mm, IPC Medium Density)
footprint RESC4532L (Chip Resistor, Body 4.5x3.2mm, IPC High Density)
footprint RESC4532M (Chip Resistor, Body 4.5x3.2mm, IPC Low Density)
footprint RESC4532N (Chip Resistor, Body 4.5x3.2mm, IPC Medium Density)
footprint RESC3225L (Chip Resistor, Body 3.2x2.5mm, IPC High Density)
footprint RESC3225M (Chip Resistor, Body 3.2x2.5mm, IPC Low Density)
footprint RESC3225N (Chip Resistor, Body 3.2x2.5mm, IPC Medium Density)
footprint RESC6332N (Chip Resistor, Body 6.3x3.2mm, IPC Medium Density)
footprint RESC6332M (Chip Resistor, Body 6.3x3.2mm, IPC Low Density)
footprint RESC6332L (Chip Resistor, Body 6.3x3.2mm, IPC High Density)
pins: 1, 2

## RES_CHP_6
designator R?, comment 30K 1%
Surface Mount Resistor
footprint RESC2012L (Chip Resistor, Body 2.0x1.3mm, IPC High Density)
footprint RESC2012M (Chip Resistor, Body 2.0x1.3mm, IPC Low Density)
footprint RESC2012N (Chip Resistor, Body 2.0x1.3mm, IPC Medium Density)
footprint RESC1608L (Chip Resistor, Body 1.6x0.8mm, IPC High Density)
footprint RESC1608M (Chip Resistor, Body 1.6x0.8mm, IPC Low Density)
footprint RESC1608N (Chip Resistor, Body 1.6x0.8mm, IPC Medium Density)
footprint RESC3216L (Chip Resistor, Body 3.2x1.6mm, IPC High Density)
footprint RESC3216M (Chip Resistor, Body 3.2x1.6mm, IPC Low Density)
footprint RESC3216N (Chip Resistor, Body 3.2x1.6mm, IPC Medium Density)
footprint RESC1005L (Chip Resistor, Body 1.1x0.5mm, IPC High Density)
footprint RESC1005M (Chip Resistor, Body 1.1x0.5mm, IPC Low Density)
footprint RESC1005N (Chip Resistor, Body 1.1x0.5mm, IPC Medium Density)
footprint RESC4532L (Chip Resistor, Body 4.5x3.2mm, IPC High Density)
footprint RESC4532M (Chip Resistor, Body 4.5x3.2mm, IPC Low Density)
footprint RESC4532N (Chip Resistor, Body 4.5x3.2mm, IPC Medium Density)
footprint RESC3225L (Chip Resistor, Body 3.2x2.5mm, IPC High Density)
footprint RESC3225M (Chip Resistor, Body 3.2x2.5mm, IPC Low Density)
footprint RESC3225N (Chip Resistor, Body 3.2x2.5mm, IPC Medium Density)
footprint RESC6332N (Chip Resistor, Body 6.3x3.2mm, IPC Medium Density)
footprint RESC6332M (Chip Resistor, Body 6.3x3.2mm, IPC Low Density)
footprint RESC6332L (Chip Resistor, Body 6.3x3.2mm, IPC High Density)
pins: 1, 2

## TYPE-C-31-M-12
designator P?
USB Type-C Connector
footprint TYPE-C-31-M-12
pins: A1 GND, A4 VBUS, A5 CC1, A6 DP1, A7 DN1, A8 SBU1, A9 VBUS, A12 GND, B1 GND, B4 VBUS, B5 CC2, B6 DP2, B7 DN2, B8 SBU2, B9 VBUS, B12 GND, MH SHIELD, MH SHIELD, MH SHIELD, MH SHIELD